# Altium schematic symbol library RDM_ALT_SCH.SchLib: 179 symbols (part 1 of 3)
Pins are listed as number, name and electrical type; pins without a type are passive.

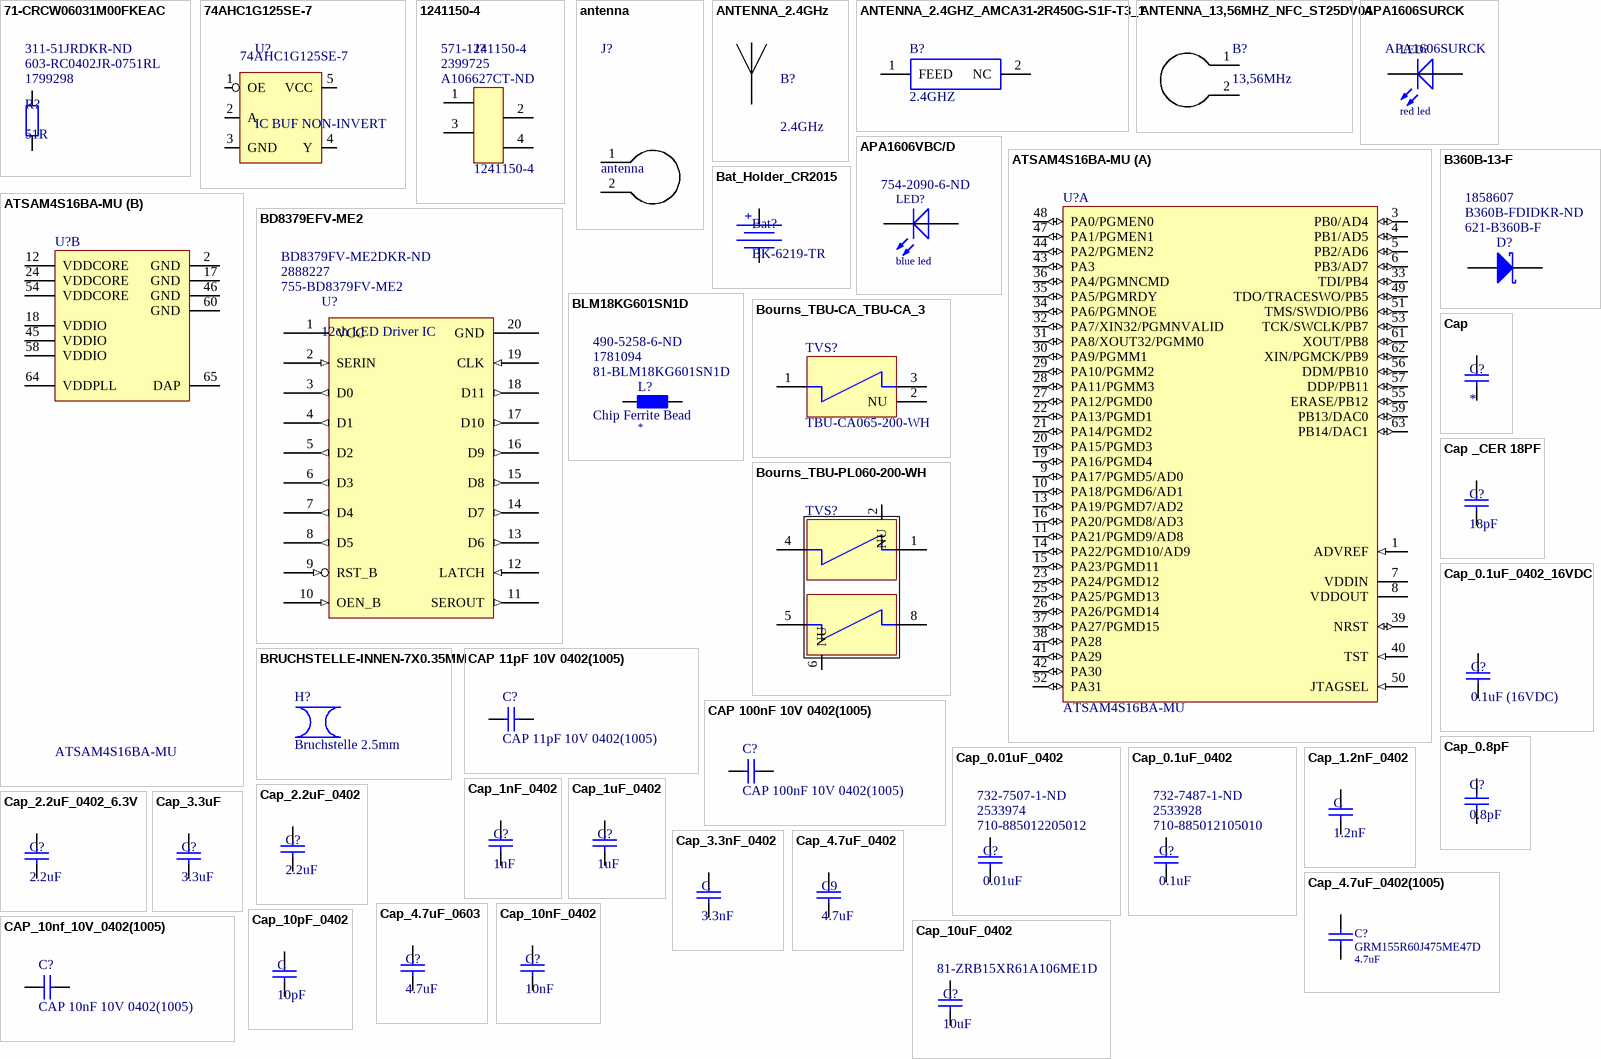
[diagram p0: symbols 71-CRCW06031M00FKEAC to Cap_10uF_0402]

## 71-CRCW06031M00FKEAC
designator R?, comment 51R  Supplier Part Number 1: 1799298  Supplier Part Number 2: 603-RC0402JR-0751RL  Supplier Part Number 3: 311-51JRDKR-ND
Resistor; Manufacturer: Yageo; Manufacturer PartNr: RC0402JR-0751RL; tolerance: 5%; power: 62.5mW; Replaceable: yes; Footprint/Package: 0402; ComponentLink1Description: mouser; ComponentLink1URL: https://www.mouser.ch/ProductDetail/Yageo/RC0402JR-0751RL?qs=sGAEpiMZZMtG0KNrPCHnjTtiZEI2zSDg2UFCMmEjZXQ%3d; Supplier 1: Farnell; Supplier 2: Mouser; Supplier 3: Digi-Key; value: 51R
footprint Resistor 0402 EIA
pins: 1, 2

## 74AHC1G125SE-7
designator U?, comment IC BUF NON-INVERT  Manufacturer PartNr: 74AHC1G125SE-7
Buffer, Non-Inverting 1 Element 1 Bit per Element 3-State Output SOT-353; Manufacturer: Diodes Incorporated; Replaceable: no; Footprint/Package: SOT353; ComponentLink1Description: mouser; ComponentLink1URL: https://www.mouser.ch/ProductDetail/Samtec/BBL-103-G-E?qs=sGAEpiMZZMs%252bGHln7q6pm5ZHNJhTjtr3eyJKd0ZImQM%3d; Supplier 2: Mouser; Supplier 1: Digi-Key; Supplier 3: Farnell; Supplier Part Number 1: SAM1104-03-ND; Supplier Part Number 2: 200-SL103G12; Supplier Part Number 3: 2019491
footprint SOT353
pins: 1 OE, 2 A, 3 GND, 4 Y, 5 VCC

## 1241150-4
designator J?  Supplier Part Number 1: A106627CT-ND  Supplier Part Number 2: 2399725  Supplier Part Number 3: 571-1241150-4  (net tie)
Headers & Wire Housings 4P SINGLE ROW; Replaceable: no; Footprint/Package: 2.54mm; Supplier 1: Digi-Key; Supplier 2: Farnell; Supplier 3: Mouser; ComponentLink1Description: mouser; ComponentLink1URL: https://www.mouser.ch/ProductDetail/TE-Connectivity-AMP/1241150-4?qs=sGAEpiMZZMvlX3nhDDO4AEpbkbpWPWuQH5SHPHaX2Mg%3d
footprint 1241150-4 (Headers & Wire Housings 4P SINGLE ROW)
pins: 1, 2, 3, 4

## antenna
designator J?  (net tie)
Replaceable: no; Footprint/Package: *
footprint antenna_1_layer (antenna 1 layer)
footprint antenna_1_layer_2_rectangles_vers1 (antenna 1 layer)
footprint antenna_1_layer_2_sprials_vers1 (antenna 1 layer)
footprint antenna_1_layer_2_sprials_vers2 (antenna 1 layer)
footprint antenna_1_layer_2_sprials_vers3 (antenna 1 layer)
footprint antenna_1_layer_2_sprials_vers4 (antenna 1 layer)
footprint antenna_1_layer_3_sprials_vers1 (antenna 1 layer)
footprint antenna_1_layer_3_sprials_vers2 (antenna 1 layer)
footprint antenna_2_layer_2_sprials_vers1 (antenna 2 layer)
footprint antenna_2_layer_2_sprials_vers2 (antenna 2 layer)
pins: 1, 2

## ANTENNA_2.4GHz
designator B?, comment 2.4GHz
2.4 GHz PCB antenna for nordic nRF52811 chip; Remark: Adopted from Nordic nRF52811 reference layout; Replaceable: no; value: PCB Antenna (2.4GHz); Manufacturer PartNr: N/A; Manufacturer_Part_Number: N/A; Supplier 1: N/A; Supplier Part Number 1: N/A; Datasheet Link: https://infocenter.nordicsemi.com/index.jsp?topic=%2Fps_nrf52811%2Fref_circuitry.html; Footprint/Package: See datasheet
footprint ANTENNA_PAD_nRF52811 (open end one wire antenna for 2.4GHz)
pins: 1

## ANTENNA_2.4GHZ_AMCA31-2R450G-S1F-T3_1
designator B?, comment 2.4GHZ
ABRACON - AMCA31-2R450G-S1F-T3 - ANTENNA, CHIP, 2.45GHZ, 50 OHM, 1206; Geometry.Height: 1.4mm; Manufacturer_Name: ABRACON; Manufacturer_Part_Number: AMCA31-2R450G-S1F-T3; RS Part Number: *; RS Price/Stock: *; Arrow Part Number: AMCA31-2R450G-S1F-T3; Arrow Price/Stock: https://www.arrow.com/en/products/amca31-2r450g-s1f-t3/abracon; Datasheet Link: http://www.abracon.com/chip-antenna/AMCA31-2R450G-S1F-T.pdf
footprint ANTC3216X140N
pins: 1 FEED, 2 NC

## ANTENNA_13,56MHZ_NFC_ST25DV04
designator B?, comment 13,56MHz
Rectangular NFC (13,56MHZ) Antenna; Replaceable: no; Remark: Adopted from Texas Instruments tidu378a.pdf  reference design.; value: NFC Antenna (13.46MHz); Footprint/Package: See datasheet; Manufacturer: N/A; Manufacturer PartNr: N/A; Supplier 1: N/A; Supplier Part Number 1: N/A; Datasheet Link: http://www.ti.com/lit/ug/tidu378a/tidu378a.pdf
footprint ANTENNA_ST25_2_LAYER_1_RECT (3,56 MHZ NFC Antenna for Nordic ST25DV04K)
pins: 1, 2

## APA1606SURCK
designator LED?, comment red led  Manufacturer PartNr: APA1606SURCK
Red 630nm LED Indication - Discrete 1.95V 2-SMD, No Lead; Manufacturer: Kingbright; Replaceable: yes; Footprint/Package: specific, see datasheet; ComponentLink1Description: mouser; ComponentLink1URL: https://www.mouser.ch/ProductDetail/Kingbright/APA1606VBC-D?qs=%2fha2pyFaduhFkLoQLKawdk3E%252bl3FgSOr3Fif4NOc1lJmKkWDM5WlaQ%3d%3d; Supplier 1: Digi-Key; Supplier Part Number 1: 754-2090-6-ND
footprint Kingbright_SMD_2_RWH
footprint Kingbright_SMD_2_RWH_NETSCALE72_SENSORBAR (Kingbright_SMD_2_RWH)
pins: 1 K, 2 A

## APA1606VBC/D
designator LED?, comment blue led  Supplier Part Number 1: 754-2090-6-ND
blue, 1.6 x 0.6 mm Right Angle SMD Chip LED Lamp; Manufacturer: Kingbright; Manufacturer PartNr: APA1606VBC/D; Replaceable: yes; Footprint/Package: specific, see datasheet; ComponentLink1Description: mouser; ComponentLink1URL: https://www.mouser.ch/ProductDetail/Kingbright/APA1606VBC-D?qs=%2fha2pyFaduhFkLoQLKawdk3E%252bl3FgSOr3Fif4NOc1lJmKkWDM5WlaQ%3d%3d; Supplier 1: Digi-Key
footprint Kingbright_SMD_2_RWH
pins: 1 K, 2 A

## ATSAM4S16BA-MU
designator U?
AT91 ARM Cortex-M4 32-bit Microcontroller, 1MB Flash, 128KB SRAM, USB, 79 User I/Os, 64-Pin QFN, Industrial Grade (-40°C to 105°C), Pb-Free; Manufacturer: Atmel; Replaceable: no; DatasheetVersion: revA, Oct-2011; PackageVersion: revJ, Jul-2007; PackageReference: 64PS; PackageDescription: 64-Pin Quad Flat No-Lead (QFN) Sawn, 9 x 9 x 1.0 mm Body, 0.5 mm Pitch, Exposed Pad; Code_JEDEC: MO-220VMMD-3; ComponentLink1Description: Manufacturer URL; ComponentLink1URL: http://www.atmel.com/; ComponentLink2Description: SAM4S Series Datasheet; ComponentLink2URL: http://www.atmel.com/dyn/resources/prod_documents/11100.pdf; ComponentLink3Description: SAM4S Series Summary; ComponentLink3URL: http://www.atmel.com/dyn/resources/prod_documents/11100S.pdf; Manufacturer PartNr: ATSAM4S16BA-MU; Footprint/Package: QFN, 64-Leads, Body 9x9mm, Pitch 0.5mm, Thermal Pad 7.5x7.5mm, IPC Medium Density
footprint 64PS_N
part A pins: 1 ADVREF (in), 3 PB0/AD4 (io), 4 PB1/AD5 (io), 5 PB2/AD6 (io), 6 PB3/AD7 (io), 7 VDDIN (power), 8 VDDOUT (power), 9 PA17/PGMD5/AD0 (io), 10 PA18/PGMD6/AD1 (io), 11 PA21/PGMD9/AD8 (io), 13 PA19/PGMD7/AD2 (io), 14 PA22/PGMD10/AD9 (io), 15 PA23/PGMD11 (io), 16 PA20/PGMD8/AD3 (io), 19 PA16/PGMD4 (io), 20 PA15/PGMD3 (io), 21 PA14/PGMD2 (io), 22 PA13/PGMD1 (io), 23 PA24/PGMD12 (io), 25 PA25/PGMD13 (io), 26 PA26/PGMD14 (io), 27 PA12/PGMD0 (io), 28 PA11/PGMM3 (io), 29 PA10/PGMM2 (io), 30 PA9/PGMM1 (io), 31 PA8/XOUT32/PGMM0 (io), 32 PA7/XIN32/PGMNVALID (io), 33 TDI/PB4 (io), 34 PA6/PGMNOE (io), 35 PA5/PGMRDY (io), 36 PA4/PGMNCMD (io), 37 PA27/PGMD15 (io), 38 PA28 (io), 39 NRST (io), 40 TST (in), 41 PA29 (io), 42 PA30 (io), 43 PA3 (io), 44 PA2/PGMEN2 (io), 47 PA1/PGMEN1 (io), 48 PA0/PGMEN0 (io), 49 TDO/TRACESWO/PB5 (io), 50 JTAGSEL (in), 51 TMS/SWDIO/PB6 (io), 52 PA31 (io), 53 TCK/SWCLK/PB7 (io), 55 ERASE/PB12 (io), 56 DDM/PB10 (io), 57 DDP/PB11 (io), 59 PB13/DAC0 (io), 61 XOUT/PB8 (io), 62 XIN/PGMCK/PB9 (io), 63 PB14/DAC1 (io)
part B pins: 2 GND (power), 12 VDDCORE (power), 17 GND (power), 18 VDDIO (power), 24 VDDCORE (power), 45 VDDIO (power), 46 GND (power), 54 VDDCORE (power), 58 VDDIO (power), 60 GND (power), 64 VDDPLL (power), 65 DAP (power)

## B360B-13-F
designator D?, comment Supplier Part Number 1: 621-B360B-F  Supplier Part Number 2: B360B-FDIDKR-ND  Supplier Part Number 3: 1858607  (hidden comment: Schottky Diode)
B360B-13-F Schottky Diode; Manufacturer: Diodes Incorporated; Replaceable: no; ComponentLink1Description: mouser; ComponentLink1URL: https://www.mouser.ch/ProductDetail/Diodes-Incorporated/B360B-13-F?qs=sGAEpiMZZMtQ8nqTKtFS%2fP8bhA82jfmw8ipi2fZa5J8%3d; Manufacturer PartNr: B360B-13-F; Footprint/Package: SMB; Supplier 1: Mouser; Supplier 2: Digi-Key; Supplier 3: Farnell
footprint SMB (DO-214-AA/SMB; 2 C-Bend Leads; Body 5.3 x 3.6 mm, inc. leads (LxW))
simulation model SKYDIODE (Diode)
signal-integrity model D Schottky
footprint Bourns_SMB (DO-214AA)_2_R
pins: 1 K, 2 A

## Bat_Holder_CR2015
designator Bat?, comment BK-6219-TR
Battery retainer coin 20mm SMD (CR2025); Manufacturer: MPD (Memory Protection Devices); Replaceable: no; value: Bat retainer; ComponentLink1Description: digykey; ComponentLink1URL: https://www.digikey.ch/product-detail/de/mpd-memory-protection-devices/BK-6219-TR/BK-6219-TR-ND/8119239; Footprint/Package: See datasheet; Manufacturer PartNr: BK-6219-TR; Supplier 1: Digi-Key; Supplier Part Number 1: BK-6219-TR-ND; Datasheet Link: http://www.memoryprotectiondevices.com/datasheets/BK-6219-TR-datasheet.pdf
footprint BAT_HOLDER_CR2025 (BATTERY RETAINER COIN 20MM SMD)
pins: 1, 2
text: +

## BD8379EFV-ME2
designator U?, comment 12ch LED Driver IC  Supplier Part Number 1: 755-BD8379FV-ME2  Supplier Part Number 2: 2888227  Supplier Part Number 3: BD8379FV-ME2DKR-ND
LED Lighting Drivers 12ch LED Drvr IC 3-5.5V; HTSSOP-B20; Manufacturer: ROHM Semiconductor; Manufacturer PartNr: BD8379FV-ME2; Replaceable: no; ComponentLink1Description: mouser; ComponentLink1URL: https://www.mouser.ch/ProductDetail/ROHM-Semiconductor/BD8379FV-ME2?qs=sGAEpiMZZMsE420DPIasPr3Oyx8hJUvEOZy8Z%252b2LZIkkhTSvSLIdLA%3d%3d; Footprint/Package: SSOP-B-20; Supplier 1: Mouser; Supplier 2: Farnell; Supplier 3: Digi-Key
footprint BD8379EFV-ME2_HTSSOP-B20 (TSOP, 20-Leads, Body 6.40x4.40mm, Pitch 0.65mm, IPC Medium Density)
pins: 1 VCC (power), 2 SERIN (in), 3 D0 (out), 4 D1 (out), 5 D2 (out), 6 D3 (out), 7 D4 (out), 8 D5 (out), 9 RST_B (in), 10 OEN_B (in), 11 SEROUT (out), 12 LATCH (in), 13 D6 (out), 14 D7 (out), 15 D8 (out), 16 D9 (out), 17 D10 (out), 18 D11 (out), 19 CLK (in), 20 GND

## BLM18KG601SN1D
designator L?, comment Chip Ferrite Bead  Supplier Part Number 1: 81-BLM18KG601SN1D  Supplier Part Number 2: 1781094  Supplier Part Number 3: 490-5258-6-ND
Ferrite Beads 0603 600ohms 1.3A; Manufacturer: Murata; Manufacturer PartNr: BLM18KG601SN1D; Replaceable: yes; ComponentLink1Description: mouser; ComponentLink1URL: https://www.mouser.ch/ProductDetail/Murata-Electronics/BLM18KG601SN1D?qs=%2fha2pyFaduhwu%252bl5Ut0DBIM3rNQdoNKes5nZMQcK7rTjh9KyVuGbqA%3d%3d; Footprint/Package: 0603; Supplier 1: Mouser; Supplier 2: Farnell; Supplier 3: Digi-Key; Value: *
footprint Resistor 0603 EIA
pins: 1, 2

## Bourns_TBU-CA_TBU-CA_3
designator TVS?, comment TBU-CA065-200-WH
TBU-CA Series - TBU® High-Speed Protectors; Manufacturer: Bourns; Manufacturer PartNr: TBU-CA065-200-WH; ShortDescription: TBU-CA065-200-WH
footprint Bourns_TBU-CA_3_R
pins: 1, 2 NU, 3

## Bourns_TBU-PL060-200-WH
designator TVS?, comment TBU-CA065-200-WH  (value not drawn)
TBU-PL Series dual 50 ohm Surge Suppressors, bi-directional; Manufacturer: Bourns; Manufacturer PartNr: TBU-PL060-200-WH; Replaceable: no; value: TBU-PL060-200-WH; Supplier 1: Mouser; Footprint/Package: DFN; Supplier Part Number 1: 652-TBU-PL060-200-WH
footprint Bourns_TBU_PL060_WH (TBU-PL060-200-WH)
pins: 1, 2 NU, 4, 5, 6 NU, 8

## BRUCHSTELLE-INNEN-7X0.35MM
designator H?, comment Bruchstelle 2.5mm
Bruchstelle 3mm; Manufacturer: NK; Manufacturer PartNr: Bruchstelle 3mm; ShortDescription: Bruchstelle 3mm
footprint Bruchstelle_7X0.5MM

## Cap
designator C?
Multilayer Ceramic Capacitors MLCC; value: *; tolerance: *; voltage: *; Replaceable: *; Dielectric Grade: *; Manufacturer: *; Manufacturer PartNr: *; Footprint/Package: *
footprint Ceramic Capacitor 1210 EIA
footprint Ceramic Capacitor 1206 EIA
footprint Ceramic Capacitor 0805 EIA
footprint Ceramic Capacitor 0603 EIA
footprint Ceramic Capacitor 0402 EIA
pins: 1, 2

## CAP 11pF 10V 0402(1005)
designator C?
CAP 11pF 10V ±0.25pF 0402 (1005 Metric) Thickness 0.6mm SMD; Case-EIA: 0402; Case-Metric: 1005; Tolerance: Â±0.25pF; Value: 11pF; Max Thickness: 0.6 mm; Rated Voltage: 10 V; Technology: SMT
footprint CAPC0402(1005)60_M (Chip Capacitor, Body 1.0x0.5mm, Height 0.6mm, IPC Low Density)
footprint CAPC0402(1005)60_N (Chip Capacitor, Body 1.0x0.5mm, Height 0.6mm, IPC Medium Density)
footprint CAPC0402(1005)60_L (Chip Capacitor, Body 1.0x0.5mm, Height 0.6mm, IPC High Density)
pins: 1, 2
1 alternate drawing of the same symbol

## CAP 100nF 10V 0402(1005)
designator C?
CAP 100nF 10V ±10% 0402 (1005 Metric) Thickness 0.6mm SMD; Case-EIA: 0402; Case-Metric: 1005; Tolerance: Â±10%; Max Thickness: 0.6 mm; Value: 100nF; Rated Voltage: 10 V; Technology: SMT
footprint CAPC0402(1005)60_M (Chip Capacitor, Body 1.0x0.5mm, Height 0.6mm, IPC Low Density)
footprint CAPC0402(1005)60_N (Chip Capacitor, Body 1.0x0.5mm, Height 0.6mm, IPC Medium Density)
footprint CAPC0402(1005)60_L (Chip Capacitor, Body 1.0x0.5mm, Height 0.6mm, IPC High Density)
pins: 1, 2
1 alternate drawing of the same symbol

## Cap _CER 18PF
designator C?, comment 18pF
CAP CER 18PF 50V NP0 0402; Manufacturer: Murata; Manufacturer Part Number: GJM1555C1H180JB01D; Tolerance: 5%; Dielectric: C0G; Supplier 1: Digi-Key; Supplier Part Number 1: 490-3119-2-ND; Stock 1: 340000; Pricing 1: 10000=0.0349, 20000=0.03307, 30000=0.03123 (USD); Mount: Surface Mount; Case/Package: 0402; Case Code (Imperial): 0402; Case Code (Metric): 1005; Min Operating Temperature: -55°C; Max Operating Temperature: 125°C; Capacitance: 18pF; Packaging: Tape and Reel; Voltage Rating: 50V; Package Quantity: 1; Termination: SMD/SMT; Voltage: 50V; Voltage Rating (DC): 50V; Length: 1mm; Height: 0.5mm; Width: 0.02inch; Thickness: 0.022inch; Depth: 0.5mm; Radiation Hardening: No; Lead Free: Lead Free; ComponentLink1URL: http://search.murata.co.jp/Ceramy/image/img/A01X/G101/ENG/GJM1555C1H180JB01-01.pdf; ComponentLink1Description: http://search.murata.co.jp/Ceramy/image/img/A01X/G101/ENG/GJM1555C1H180JB01-01.pdf
pins: 1, 2

## Cap_0.01uF_0402
designator C?, comment 0.01uF  Supplier Part Number 1: 710-885012205012  Supplier Part Number 2: 2533974  Supplier Part Number 3: 732-7507-1-ND
SMD/SMT WCAP-CSGP 0.01uF 0402 10% 10V MLCC; Manufacturer: Wurth Electronics; Manufacturer PartNr: 885012205012; voltage: 10VDC; Replaceable: yes; Dielectric Grade: X7R; value: 0.01uF; tolerance: 10%; ComponentLink1Description: mouser; ComponentLink1URL: https://www.mouser.ch/ProductDetail/Wurth-Electronics/885012205012?qs=%2fha2pyFadugw7Bx5e6Fm8E9Tl5BwARhs%2fZgZBwU9Lt9i4SI58FWkO%2fGWTrc%2fVjVaOTikVrFA6u%2fDYyVQwAJERsgVVqUKkSXa; Footprint/Package: 0402; Supplier 1: Mouser; Supplier 2: Farnell; Supplier 3: Digi-Key
footprint Ceramic Capacitor 0402 EIA
pins: 1, 2

## Cap_0.1uF_0402
designator C?, comment 0.1uF  Supplier Part Number 1: 710-885012105010  Supplier Part Number 2: 2533928  Supplier Part Number 3: 732-7487-1-ND
SMD/SMT WCAP-CSGP 0.1uF 0402 20% 10V MLCC; Manufacturer: Wurth Electronics; Manufacturer PartNr: 885012105010; voltage: 10VDC; Replaceable: yes; Dielectric Grade: X5R; value: 0.1uF; tolerance: 20%; Footprint/Package: 0402; ComponentLink1Description: mouser; ComponentLink1URL: https://www.mouser.ch/ProductDetail/Wurth-Electronics/885012105010?qs=sGAEpiMZZMs0AnBnWHyRQEGbLOF2VP1ihL84oCjXnlO407YOHi%2fQbw%3d%3d; Supplier 1: Mouser; Supplier 2: Farnell; Supplier 3: Digi-Key
footprint Ceramic Capacitor 0402 EIA
pins: 1, 2

## Cap_0.1uF_0402_16VDC
designator C?, comment 0.1uF (16VDC)
SMD/SMT 16volts .1uF 20% X7R; Manufacturer: KEMET; Manufacturer PartNr: C0402C104M4RACAUTO; Replaceable: yes; value: 0.1uF (16VDC); tolerance: 20%; voltage: 16VDC; Footprint/Package: 0402; Dielectric Grade: X7R; ComponentLink1Description: mouser; ComponentLink1URL: https://www.mouser.ch/ProductDetail/KEMET/C0402C104M4RACAUTO?qs=sGAEpiMZZMs0AnBnWHyRQB295tntAovf0Dzw3tVX6zRfKTwHFThmZw%3d%3d
footprint Ceramic Capacitor 0402 EIA
pins: 1, 2

## Cap_0.8pF
designator C?, comment 0.8pF
Cap Ceramic 0.8pF 50V C0G 0.1pF SMD 0402 125C Paper T/R; Manufacturer: Murata; Manufacturer PartNr: GJM1555C1HR80BB01D; Dielectric Grade: NP0/C0G; Replaceable: yes; Supplier 1: Digi-Key; Supplier Part Number 1: GJM1555C1HR80BB01D-ND; Footprint/Package: 0402 (1005 metric); value: 0.8pF; Voltage: 50V; ComponentLink1URL: http://search.murata.co.jp/Ceramy/image/img/A01X/G101/ENG/GJM1555C1HR80BB01-01.pdf; ComponentLink1Description: http://search.murata.co.jp/Ceramy/image/img/A01X/G101/ENG/GJM1555C1HR80BB01-01.pdf; ComponentLink2URL: http://search.murata.co.jp/Ceramy/image/img/w_hinm/L0005E.pdf; ComponentLink2Description: http://search.murata.co.jp/Ceramy/image/img/w_hinm/L0005E.pdf; ComponentLink3URL: http://psearch.murata.com/capacitor/product/GJM1555C1HR80BB01%23.pdf; ComponentLink3Description: http://psearch.murata.com/capacitor/product/GJM1555C1HR80BB01%23.pdf; ComponentLink4URL: https://www.verical.com/server-webapp/html/getDatasheet?partID=75095; ComponentLink4Description: https://www.verical.com/server-webapp/html/getDatasheet?partID=75095
footprint Ceramic Capacitor 0402 EIA
pins: 1, 2

## Cap_1.2nF_0402
designator C, comment 1.2nF
Multilayer Ceramic Capacitors MLCC - SMD/SMT 50V 1200pF C0G 0402 5%; Manufracturer: Kemet; Manufacturer PartNr: C0402C122J5GACTU; voltage: 50VDC; Replaceable: yes; tolerance: 5%; ComponentLink1Description: mouser; ComponentLink1URL: https://www.mouser.ch/ProductDetail/Murata-Electronics/GRM155R60J475ME47D?qs=sGAEpiMZZMs0AnBnWHyRQIE6q%2f4qwWvwbJmEUwav8%2f4%3d; Dielectric Grade: C0G; Footprint/Package: 0402 (1005 metric); Supplier 1: Mouser; Supplier Part Number 1: 80-C0402C122J5G; value: 1.2nF
footprint Ceramic Capacitor 0402 EIA
pins: 1, 2

## Cap_1nF_0402
designator C?, comment 1nF
1000pF ±20% 50V Ceramic Capacitor X5R 0402 (1005 Metric); Manufacturer: TDK Corporation; Manufacturer PartNr: C1005X5R1H102M050BA; Replaceable: yes; value: 1nF; tolerance: ±20%; voltage: 50V; Dielectric Grade: X5R; Footprint/Package: 0402; ComponentLink1Description: digikey; ComponentLink1URL: https://www.digikey.com/product-detail/en/tdk-corporation/C1005X5R1H102M050BA/445-13843-6-ND/3959939
footprint Ceramic Capacitor 0402 EIA
pins: 1, 2

## Cap_1uF_0402
designator C?, comment 1uF
SMD/SMT 0402 1uF 10volts X7S 10%; Manufacturer: Murata; Manufacturer PartNr: GCM155C71A105KE38D; voltage: 10VDC; Replaceable: yes; value: 1uF; tolerance: 10%; Footprint/Package: 0402 (1005 metric); Dielectric Grade: X7S; ComponentLink1Description: mouser; ComponentLink1URL: https://www.mouser.ch/ProductDetail/Murata-Electronics/GCM155C71A105KE38D?qs=sGAEpiMZZMsh%252b1woXyUXj0FEAttKcN54ouz5zO04smg%3d; Supplier Part Number 1: 490-13409-1-ND; Supplier 1: Digi-Key
footprint Ceramic Capacitor 0402 EIA
pins: 1, 2

## Cap_2.2uF_0402
designator C?, comment 2.2uF
2.2µF ±20% 25V Ceramic Capacitor X5R 0402 (1005 Metric); Manufacturer: Murata; Manufacturer PartNr: GRM155R61E225ME15D; Replaceable: yes; value: 2.2uF; tolerance: ±20%; voltage: 25V; Dielectric Grade: X5R; Footprint/Package: 0402; ComponentLink1Description: digikey; ComponentLink1URL: https://www.digikey.com/product-detail/en/murata-electronics-north-america/GRM155R61E225ME15D/490-10457-2-ND/5027542
footprint Ceramic Capacitor 0402 EIA
pins: 1, 2

## Cap_2.2uF_0402_6.3V
designator C?, comment 2.2uF
Multilayer Ceramic Capacitors MLCC - SMD/SMT 0402 2.2uF 6.3volts *Derate Voltage/Temp; Manufacturer: Murata; Manufacturer PartNr: GRM155R60J225ME15D; tolerance: ±20%; voltage: 6.3V; Replaceable: yes; Dielectric Grade: X5R; value: 2.2uF; Footprint/Package: 0402; ComponentLink1Description: digikey; ComponentLink1URL: https://www.digikey.com/product-detail/en/murata-electronics-north-america/GRM155R61E225ME15D/490-10457-2-ND/5027542; Supplier 1: Mouser; Supplier Part Number 1: 81-GRM155R60J225ME5D
footprint Ceramic Capacitor 0402 EIA
pins: 1, 2

## Cap_3.3nF_0402
designator C, comment 3.3nF
Multilayer Ceramic Capacitors MLCC - SMD/SMT 0402 3300pF 50volts X7R 5%; Manufracturer: Murata Electronics; Manufacturer PartNr: GCM155R71H332JA37D; voltage: 50VDC; Replaceable: yes; tolerance: 5%; ComponentLink1Description: mouser; ComponentLink1URL: https://www.mouser.ch/ProductDetail/Murata-Electronics/GRM155R60J475ME47D?qs=sGAEpiMZZMs0AnBnWHyRQIE6q%2f4qwWvwbJmEUwav8%2f4%3d; Dielectric Grade: X7R; Footprint/Package: 0402 (1005 metric); Supplier 1: Mouser; Supplier Part Number 1: 81-GCM155R71H332JA7D; value: 3.3nF
footprint Ceramic Capacitor 0402 EIA
pins: 1, 2

## Cap_3.3uF
designator C?, comment 3.3uF
KEMET 3.3F Multilayer Ceramic Capacitor (MLCC) 6.3 V dc 20% X5R dielectric C SMD max op. temp. +85C; Manufacturer Part Number: C0603C335M9PAC7867; Voltage: 6.3V; Supplier 1: Digi-Key; Supplier Part Number 1: 399-5502-6-ND; Manufacturer: KEMET; Stock 1: 40000; Pricing 1: 1=0.28, 10=0.194, 100=0.11, 500=0.07764, 1000=0.06794 (USD); Mount: Surface Mount; Case/Package: 0603; Number of Pins: 2; Dielectric Material: Ceramic; Min Operating Temperature: -55°C; Max Operating Temperature: 85°C; Capacitance: 3.3uF; Tolerance: 20%; Packaging: Tape and Reel; Dielectric: X5R; Termination: SMD/SMT; Voltage Rating (DC): 6.3V; Length: 1.6mm; Height: 0.8mm; Depth: 0.8mm; Radiation Hardening: No; Lead Free: Lead Free; ComponentLink1URL: http://uk.rs-online.com/webdocs/1528/0900766b81528d26.pdf; ComponentLink1Description: http://uk.rs-online.com/webdocs/1528/0900766b81528d26.pdf
pins: 1, 2

## Cap_4.7uF_0402
designator C9, comment 4.7uF
SMD/SMT 0402 4.7uF 6.3volts *Derate Voltage/Temp; Manufracturer: Samsung Electro-Mechanics; Manufacturer PartNr: CL05A475KP5NRNC; tolerance: 10%; voltage: 10VDC; Replaceable: yes; Dielectric Grade: X5R; ComponentLink1Description: mouser; ComponentLink1URL: https://www.mouser.ch/ProductDetail/Murata-Electronics/GRM155R60J475ME47D?qs=sGAEpiMZZMs0AnBnWHyRQIE6q%2f4qwWvwbJmEUwav8%2f4%3d; Footprint/Package: 0402 (1005 metric); Supplier 1: Digi-Key; Supplier Part Number 1: 1276-1480-1-ND; value: 4.7uF
footprint Ceramic Capacitor 0402 EIA
pins: 1, 2

## Cap_4.7uF_0402(1005)
designator C?, comment GRM155R60J475ME47D  value 4.7uF
4.7uF, Chip Monolithic Ceramic Condensators; Manufacturer: Murata; Manufacturer PartNr: GRM155R60J475ME47D
footprint CAP-0402[1005] - RFL (SMD Chip 0402 - CAP - RFL)
pins: 1 Pos, 2 Neg

## Cap_4.7uF_0603
designator C?, comment 4.7uF
SMD/SMT 0603 4.7uF 10volts; Manufracturer: Murata; Manufacturer PartNr: GRM188R61A475KE15D; tolerance: 20%; voltage: 10VDC; Replaceable: yes; Dielectric Grade: X5R; value: 4.7uF; Footprint/Package: 0603
footprint Ceramic Capacitor 0603 EIA
pins: 1, 2

## CAP_10nf_10V_0402(1005)
designator C?, comment CAP 10nF 10V 0402(1005)
CAP 10nF 10V ±10% 0402 (1005 Metric) Thickness 0.6mm SMD; Case-Metric: 1005; Case-EIA: 0402; Tolerance: Â±10%; Rated Voltage: 10 V; Technology: SMT; Max Thickness: 0.6 mm; Value: 10nF
footprint CAPC0402(1005)60_M (Chip Capacitor, Body 1.0x0.5mm, Height 0.6mm, IPC Low Density)
footprint CAPC0402(1005)60_L (Chip Capacitor, Body 1.0x0.5mm, Height 0.6mm, IPC High Density)
footprint CAPC0402(1005)60_N (Chip Capacitor, Body 1.0x0.5mm, Height 0.6mm, IPC Medium Density)
pins: 1, 2
1 alternate drawing of the same symbol

## Cap_10nF_0402
designator C?, comment 10nF
10000pF ±10% 50V Keramikkondensatoren X7R 0402 (1005 metrisch) CL05B103KB5NNNC; Manufacturer: Samsung Electro-Mechanics; Replaceable: yes; tolerance: ±10%; voltage: 50V; Dielectric Grade: X7R; Footprint/Package: 0402; Supplier Part Number 1: 1276-1028-2-ND; Supplier 1: Digi-Key; Manufacturer PartNr: CL05B103KB5NNNC; value: 10nF
footprint Ceramic Capacitor 0402 EIA
pins: 1, 2

## Cap_10pF_0402
designator C, comment 10pF
Multilayer Ceramic Capacitors MLCC - SMD/SMT 0402 10pF 50Volts C0G 1%; Manufracturer: Murata Electronics; Manufacturer PartNr: GJM1555C1H100FB01D; voltage: 50VDC; Replaceable: yes; Dielectric Grade: C0G (NP0); tolerance: 1%; ComponentLink1Description: mouser; ComponentLink1URL: https://www.mouser.ch/ProductDetail/Murata-Electronics/GRM155R60J475ME47D?qs=sGAEpiMZZMs0AnBnWHyRQIE6q%2f4qwWvwbJmEUwav8%2f4%3d; Footprint/Package: 0402 (1005 metric); Supplier 1: Mouser; Supplier Part Number 1: 81-GJM1555C1H100FB01; value: 10pF
footprint Ceramic Capacitor 0402 EIA
pins: 1, 2

## Cap_10uF_0402
designator C?, comment 10uF  Supplier Part Number 1: 81-ZRB15XR61A106ME1D
Multilayer Ceramic Capacitors MLCC - SMD/SMT; Manufacturer: Murata; Manufacturer PartNr: ZRB15XR61A106ME01D; tolerance: 20%; voltage: 10VDC; Replaceable: yes; Dielectric Grade: X5R; value: 10uF; ComponentLink1Description: mouser; ComponentLink1URL: https://www.mouser.ch/ProductDetail/Murata-Electronics/ZRB15XR61A106ME01D?qs=sGAEpiMZZMs0AnBnWHyRQN7%2fAA2D2lPPC0%2fdyv23S%2fU%252bBeuYI5b1UA%3d%3d; Footprint/Package: 0402; Supplier 1: Mouser
footprint Ceramic Capacitor 0402 EIA
pins: 1, 2

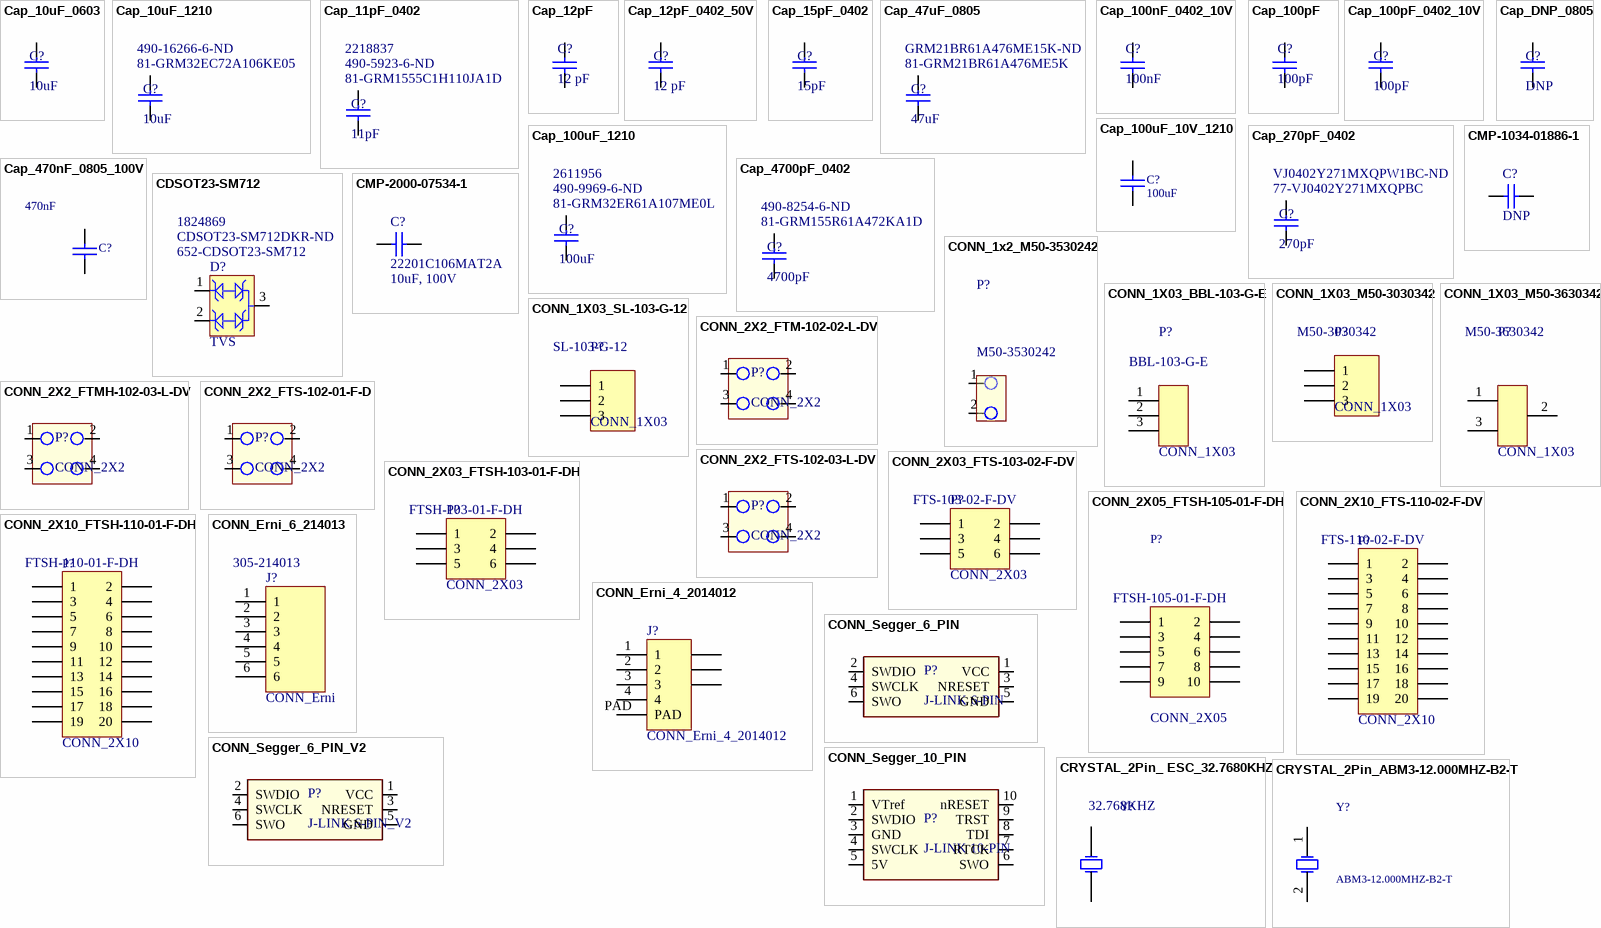
[diagram p1: symbols Cap_10uF_0603 to CRYSTAL_2Pin_ABM3-12.000MHZ-B2-T]

## Cap_10uF_0603
designator C?, comment 10uF
SMD/SMT 0603 10uF 10volts; Manufacturer: Murata; Manufacturer PartNr: GRM188D71A106MA73D; tolerance: 20%; voltage: 10VDC; Replaceable: yes; Dielectric Grade: X5R; value: 10uF; Footprint/Package: 0603
footprint Ceramic Capacitor 0603 EIA
pins: 1, 2

## Cap_10uF_1210
designator C?, comment 10uF  Supplier Part Number 1: 81-GRM32EC72A106KE05  Supplier Part Number 2: 490-16266-6-ND
SMD/SMT 100Vdc 10uF 10% 1210/2502; Manufacturer: Murata; Manufacturer PartNr: GRM32EC72A106KE05L; Replaceable: yes; Dielectric Grade: X7S; value: 10uF; tolerance: 10%; voltage: 100VDC; ComponentLink1Description: mouser; ComponentLink1URL: https://www.mouser.ch/ProductDetail/Murata-Electronics/GRM32EC72A106KE05L?qs=sGAEpiMZZMs0AnBnWHyRQN7%2fAA2D2lPPRgsNRWcxCxSMn45aJ02Wig%3d%3d; Footprint/Package: 1210; Supplier 1: Mouser; Supplier 2: Digi-Key
footprint Ceramic Capacitor 1210 EIA
pins: 1, 2

## Cap_11pF_0402
designator C?, comment 11pF  Supplier Part Number 1: 81-GRM1555C1H110JA1D  Supplier Part Number 2: 490-5923-6-ND  Supplier Part Number 3: 2218837
SMD/SMT 0402 11pF 50volts C0G 5%; Manufacturer: Murata; Manufacturer PartNr: GRM1555C1H110JA01D; voltage: 50VDC; Replaceable: yes; Dielectric Grade: C0G (NP0); value: 11pF; tolerance: 5%; Footprint/Package: 0402; ComponentLink1Description: mouser; ComponentLink1URL: https://www.mouser.ch/ProductDetail/Murata-Electronics/GRM1555C1H110JA01D?qs=%2fha2pyFadug34NHqLs7eMMmZ4IY%2fB%2fBwtGmZmE%252bqlNJIuNiWKDU4cio3ILTIjZ7Z; Supplier 1: Mouser; Supplier 2: Digi-Key; Supplier 3: Farnell
footprint Ceramic Capacitor 0402 EIA
pins: 1, 2

## Cap_12pF
designator C?, comment 12 pF
AVX   04025A120JAT2A   Multilayer Ceramic Capacitor, 12 pF,  5%, C0G / NP0, 50 V, 0402 [1005 Metric]; Manufacturer: Kyocera AVX; Capacitance: 12pF; Voltage Rating: 50V; Temperature Coefficient: 30ppm/°C; Insulation Resistance: 100GR; Supplier 1: Mouser; Supplier Part Number 1: 581-04025A120J; Manufacturer Part Number: 04025A120JAT2A; Stock 1: 143; Pricing 1: 1=0.16, 10=0.117, 50=0.117, 100=0.055, 1000=0.032, 10000=0.021 (USD); Mount: PCB,Surface Mount; Case/Package: 0402; Number of Pins: 2; Case Code (Metric): 1005; Case Code (Imperial): 0402; Min Operating Temperature: -55°C; Max Operating Temperature: 125°C; Packaging: Tape and Reel; Tolerance: 5%; Voltage Rating (DC): 50V; Package Quantity: 1; Dielectric: C0G; Termination: SMD/SMT; Voltage: 50V; Length: 1mm; Height: 0.5mm; Width: 0.02inch; Thickness: 0.022inch; Depth: 0.5mm; Radiation Hardening: No; REACH SVHC: No SVHC; Lead Free: Lead Free; ComponentLink1URL: http://www.farnell.com/datasheets/84496.pdf; ComponentLink1Description: http://www.farnell.com/datasheets/84496.pdf; ComponentLink2URL: http://datasheets.avx.com/C0GNP0-Dielectric.pdf; ComponentLink2Description: http://datasheets.avx.com/C0GNP0-Dielectric.pdf; ComponentLink3URL: http://catalogs.avx.com/SurfaceMount.pdf; ComponentLink3Description: http://catalogs.avx.com/SurfaceMount.pdf; ComponentLink4URL: http://www.avxcorp.com/docs/Catalogs/ccog.pdf; ComponentLink4Description: http://www.avxcorp.com/docs/Catalogs/ccog.pdf; ComponentLink5URL: http://www.farnell.com/datasheets/759117.pdf; ComponentLink5Description: http://www.farnell.com/datasheets/759117.pdf
pins: 1, 2

## Cap_12pF_0402_50V
designator C?, comment 12 pF
12pF ±5% 50V Keramikkondensatoren C0G, NP0 0402 (1005 metrisch); Manufacturer: Murata; Manufacturer PartNr: GRM1555C1H120GA01D; voltage: 50; Replaceable: yes; Dielectric Grade: C0G/NP0; value: 12 pF; tolerance: ±5%; Footprint/Package: 0402 (1005 metric); Supplier 1: Digi-Key; Supplier Part Number 1: 490-6197-2-ND
footprint Ceramic Capacitor 0402 EIA
pins: 1, 2

## Cap_15pF_0402
designator C?, comment 15pF
Multilayer Ceramic Capacitors MLCC - SMD/SMT 0402 15pF 50Volts C0G 5%; Manufacturer: Muarata; Manufacturer PartNr: GJM1555C1H150FB01D; voltage: 50V; Replaceable: no; Dielectric Grade: C0G (NP0); value: 15pF; tolerance: ±5%; Footprint/Package: 0402; ComponentLink1Description: digikey; ComponentLink1URL: https://www.digikey.com/product-detail/en/murata-electronics-north-america/GJM1555C1H150FB01D/490-11191-6-ND/5333833
footprint Ceramic Capacitor 0402 EIA
pins: 1, 2

## Cap_47uF_0805
designator C?, comment 47uF  Supplier Part Number 1: 81-GRM21BR61A476ME5K  Supplier Part Number 2: GRM21BR61A476ME15K-ND
SMD/SMT 0805 47uF 10volts; Manufacturer: Murata; Manufacturer PartNr: GRM21BR61A476ME15K; tolerance: 20%; voltage: 10VDC; Replaceable: yes; Dielectric Grade: X5R; value: 47uF; ComponentLink1Description: mouser; ComponentLink1URL: https://www.mouser.ch/ProductDetail/Murata-Electronics/GRM21BR61A476ME15K?qs=sGAEpiMZZMs0AnBnWHyRQFv7x1xn%252bYFd%2fKEbtsqpw9LjjzI%2fE2JjPg%3d%3d; Footprint/Package: 0805; Supplier 1: Mouser; Supplier 2: Digi-Key
footprint Ceramic Capacitor 0805 EIA
pins: 1, 2

## Cap_100nF_0402_10V
designator C?, comment 100nF
0,1µF ±10% 10V Keramikkondensatoren X7R 0402 (1005 metrisch); Manufacturer: Samsung Electro-Mechanics; Manufacturer PartNr: CL05B104KP5NNNC; Replaceable: yes; volatage: 10; Dielectric Grade: X7R; Footprint/Package: 0402 (1005 metric); Supplier 1: Digi-Key; Supplier Part Number 1: 1276-1002-1-ND; value: 100nF
footprint Ceramic Capacitor 0402 EIA
pins: 1, 2

## Cap_100pF
designator C?, comment 100pF
SMD/SMT 0201 100pF 50volts C0G +/-5%; Manufacturer: Murata; Manufacturer Part Number: GRM0335C1H101JA01D; Voltage Rating: 50V; Tolerance: 5%; Supplier 1: Digi-Key; Supplier Part Number 1: 490-6113-2-ND; Stock 1: 150000; Pricing 1: 15000=0.00225 (USD); Mount: Surface Mount; Case/Package: 0201; Case Code (Metric): 0603; Case Code (Imperial): 0201; Min Operating Temperature: -55°C; Max Operating Temperature: 125°C; Package Quantity: 1; Capacitance: 100pF; Packaging: Tape and Reel; Voltage Rating (DC): 50V; Dielectric: C0G; Termination: SMD/SMT; Voltage: 50V; Length: 0.6mm; Height: 0.3mm; Width: 0.012inch; Thickness: 0.013inch; Depth: 0.3mm; Radiation Hardening: No; REACH SVHC: No SVHC; Lead Free: Lead Free; ComponentLink1URL: http://search.murata.co.jp/Ceramy/image/img/A01X/G101/ENG/GRM0335C1H101JA01-01.pdf; ComponentLink1Description: http://search.murata.co.jp/Ceramy/image/img/A01X/G101/ENG/GRM0335C1H101JA01-01.pdf; ComponentLink2URL: https://www.verical.com/server-webapp/html/getDatasheet?partID=745940; ComponentLink2Description: https://www.verical.com/server-webapp/html/getDatasheet?partID=745940
pins: 1, 2

## Cap_100pF_0402_10V
designator C?, comment 100pF
100pF ±5% 10V Keramikkondensatoren C0G, NP0 0402 (1005 metrisch); Manufacturer: Yageo; Manufacturer PartNr: 885012005013; voltage: 10; Replaceable: yes; Dielectric Grade: C0G/NP0; value: 100pF; tolerance: ±5%; Footprint/Package: 0402 (1005 metric); Supplier 1: Digi-Key; Supplier Part Number 1: 732-7431-1-ND
footprint Ceramic Capacitor 0402 EIA
pins: 1, 2

## Cap_100uF_10V_1210
designator C?, comment 100uF
Multilayer Ceramic Capacitors MLCC - SMD/SMT 1210 100uF 10volts *Derate Voltage/Temp; Manufacturer: Murata; Manufacturer PartNr: GRM32ER61A107ME20L; Dielectric Grade: X5R; Replaceable: yes; voltage: 10 V; ShortDescription: 100uF, 10V; value: 100uF; Footprint/Package: 1210; Supplier 1: Mouser; Supplier Part Number 1: 81-GRM32ER61A107ME0L
footprint CAP-1210[3225] - RFL (SMD Chip 1210  - CAP - RFL)
footprint CAP-1210[3225] (SMD Chip 1210 - CAP)
pins: 1 Pos, 2 Neg

## Cap_100uF_1210
designator C?, comment 100uF  Supplier Part Number 1: 81-GRM32ER61A107ME0L  Supplier Part Number 2: 490-9969-6-ND  Supplier Part Number 3: 2611956
SMD/SMT 1210 100uF 10volts; Manufacturer: Murata; Manufacturer PartNr: GRM32ER61A107ME20L; tolerance: 20%; voltage: 10VDC; Replaceable: yes; Dielectric Grade: X5R; value: 100uF; ComponentLink1Description: mouser; ComponentLink1URL: https://www.mouser.ch/ProductDetail/Murata-Electronics/GRM32ER61A107ME20L?qs=%2fha2pyFadujTIW1iRtmxr653ZIgAU44vXequBnyWeR6jUus%2fFAauKtPX80sKE7XM; Footprint/Package: 1210; Supplier 1: Mouser; Supplier 2: Digi-Key; Supplier 3: Farnell
footprint Ceramic Capacitor 1210 EIA
pins: 1, 2

## Cap_270pF_0402
designator C?, comment 270pF  Supplier Part Number 1: 77-VJ0402Y271MXQPBC  Supplier Part Number 2: VJ0402Y271MXQPW1BC-ND
SMD/SMT 0402 270pF 10volts X7R 20%; Manufacturer: Vishay / Vitramon; Manufacturer PartNr: VJ0402Y271MXQPW1BC; voltage: 10VDC; Replaceable: yes; value: 270pF; tolerance: 20%; ComponentLink1Description: mouser; ComponentLink1URL: https://www.mouser.ch/ProductDetail/Vishay-Vitramon/VJ0402Y271MXQPW1BC?qs=sGAEpiMZZMs0AnBnWHyRQGuekufMepD5hIxY33Q3750%3d; Footprint/Package: 0402; Dielectric Grade: X7R; Supplier 1: Mouser; Supplier 2: Digi-Key
footprint Ceramic Capacitor 0402 EIA
pins: 1, 2

## Cap_470nF_0805_100V
designator C?, comment 470nF
470nF, 100V, X7R, 10 %, Chip Monolithic Ceramic Capacitor for General, 0805 (metric 2012); Manufacturer: Murata; Manufacturer PartNr: GRM21BR72A474KA73L; voltage: 100 VDC; Replaceable: yes; tolerance: 10 %; Supplier 1: Mouser; Supplier Part Number 1: 81-GRM21BR72A474KA73; Dielectric Grade: X7R; Footprint/Package: 0805; ShortDescription: 470nF, 100V; value: 470nF
footprint CAP-0805[2012] - RFL (SMD Chip 0805 - CAP - RFL)
footprint CAP-0805[2012] (SMD Chip 0805 - CAP)
pins: 1 Pos, 2 Neg

## Cap_4700pF_0402
designator C?, comment 4700pF  Supplier Part Number 1: 81-GRM155R61A472KA1D  Supplier Part Number 2: 490-8254-6-ND
SMD/SMT 0.0047uF 10volts 10%; Manufacturer: Murata; Manufacturer PartNr: GRM155R61A472KA01D; voltage: 10VDC; Replaceable: yes; Dielectric Grade: X5R; value: 4700pF; tolerance: 10%; ComponentLink1Description: mouser; ComponentLink1URL: https://www.mouser.ch/ProductDetail/Murata-Electronics/GRM155R61A472KA01D?qs=sGAEpiMZZMs0AnBnWHyRQJuLogdu9bcTuSYPL0o17LI%3d; Footprint/Package: 0402; Supplier 1: Mouser; Supplier 2: Digi-Key
footprint Ceramic Capacitor 0402 EIA
pins: 1, 2

## Cap_DNP_0805
designator C?, comment DNP
Do not place 0805 (2012 metric) - placeholder; Replaceable: no; value: DNP; tolerance: *; voltage: *; Dielectric Grade: *; Manufacturer: N/A; Manufacturer PartNr: N/A; Footprint/Package: 0805 (2012 metric); Supplier 1: N/A; Supplier Part Number 1: N/A; Remark: do not place
footprint Ceramic Capacitor 0805 EIA
pins: 1, 2

## CDSOT23-SM712
designator D?, comment TVS  Supplier Part Number 1: 652-CDSOT23-SM712  Supplier Part Number 2: CDSOT23-SM712DKR-ND  Supplier Part Number 3: 1824869
ESD Suppressors / TVS Diodes SOT-23 7V400W Low Capacitance; Manufacturer: Bourns; Manufacturer PartNr: CDSOT23-SM712; Replaceable: no; ComponentLink1Description: mouser; ComponentLink1URL: https://www.mouser.ch/ProductDetail/Bourns/CDSOT23-SM712?qs=sGAEpiMZZMviKXukECHWvZSlzh2FqLKC; Footprint/Package: SOT-23; Supplier 1: Mouser; Supplier 2: Digi-Key; Supplier 3: Farnell
footprint BOUR-SOT23-3_V (SOT23, 3-Leads, Body 2.9x1.3mm, Pitch 0.95mm)
pins: 1, 2, 3

## CMP-1034-01886-1
designator C?, comment DNP
CAP 10nF 50V ±10% 0402 (1005 Metric) Thickness 0.6mm SMD; Tolerance: Â±10%; Case-EIA: 0402; Case-Metric: 1005; Rated Voltage: 50 V; Max Thickness: 0.6 mm; Technology: SMT; Value: DNP
footprint CAPC0402(1005)60_N (Chip Capacitor, Body 1.0x0.5mm, Height 0.6mm, IPC Medium Density)
footprint CAPC0402(1005)60_L (Chip Capacitor, Body 1.0x0.5mm, Height 0.6mm, IPC High Density)
footprint CAPC0402(1005)60_M (Chip Capacitor, Body 1.0x0.5mm, Height 0.6mm, IPC Low Density)
pins: 1, 2
1 alternate drawing of the same symbol

## CMP-2000-07534-1
designator C?, comment 22201C106MAT2A  value 10uF, 100V
Chip Capacitor, 10 uF, +/- 20%, 100 V, -55 to 125 degC, 2220 (5750 Metric), RoHS, Tape and Reel; Manufacturer: AVX; Datasheet URL: http://datasheets.avx.com/X7RDielectric.pdf; Package Reference: 2220; Package Description: 2-Pin Surface Mount Device, Body 5 x 5.7 mm; Datasheet Version: 03/2017; Manufacturer URL: http://www.avx.com/; Mounting Technology: SurfaceMount
footprint CAPC5750X279X64LL40T39 (Chip Capacitor, 2-Leads, Body 6.1x5.4mm, IPC High Density)
footprint CAPC5750X279X64ML40T39 (Chip Capacitor, 2-Leads, Body 6.1x5.4mm, IPC Low Density)
footprint CAPC5750X279X64NL40T39 (Chip Capacitor, 2-Leads, Body 6.1x5.4mm, IPC Medium Density)
pins: 1, 2

## CONN_1x2_M50-3530242
designator P?, comment Manufacturer PartNr: M50-3530242  (hidden comment: CONN_1X02)  (net tie)
2 Pin, 1 Row, Jumper, 1.27mm; Manufacturer: Harwin; Replaceable: yes; Footprint/Package: 1.27mm; ComponentLink1Description: digikey; ComponentLink1URL: https://www.digikey.com/product-detail/en/harwin-inc/M50-3530242/952-3598-ND/7044013; Supplier1: digikey; Supplier Part Number 1: 952-3598-ND
footprint CONN_2x01_Harwin (Connector Header, vertical, 2 Pos, Pitch 1.27mm)
pins: 1, 2

## CONN_1X03_BBL-103-G-E
designator P?, comment CONN_1X03  Manufacturer PartNr: BBL-103-G-E  (net tie)
Headers & Wire Housings .100" Low Profile Single Row, Screw Machine Terminal Strip; Manufacturer: Samtec; Replaceable: no; Footprint/Package: 2.54mm; ComponentLink1Description: mouser; ComponentLink1URL: https://www.mouser.ch/ProductDetail/Harwin/M50-3630342?qs=sGAEpiMZZMs%252bGHln7q6pm8Vn94ktop%2fJJXqVipEXDKohcoO0QNXTaw%3d%3d
footprint CONN-1X03_BBL-103-G-E (Headers & Wire Housings .100" Low Profile Single Row, Screw Machine Terminal Strip)
pins: 1, 2, 3

## CONN_1X03_M50-3030342
designator P?, comment CONN_1X03  Manufacturer PartNr: M50-3030342
Sockel & Kabelgehäuse 3 WAY SIL VERT PC TAIL SKT; Manufacturer: Archer; Replaceable: no; Footprint/Package: 1.27 mm; Supplier 1: Mouser; ComponentLink1Description: mouser; ComponentLink1URL: https://www.mouser.ch/ProductDetail/Harwin/M50-3030342?qs=%2fha2pyFaduiRpn7Sn9fWVp%252bNpdzGcgnS82sSCZLLu%2fUjQZVEB%252bIkNw%3d%3d; Supplier Part Number 1: 855-M50-3030342
footprint CONN_1X03 (Connector; Header; 3 Position)
pins: 1, 2, 3

## CONN_1X03_M50-3630342
designator P?, comment CONN_1X03  Manufacturer PartNr: M50-3630342  (net tie)
Sockel & Kabelgehäuse 3 WAY SIL VERT PC TAIL SKT; Replaceable: no; Footprint/Package: 2.54mm; Supplier 1: Mouser; Supplier 2: Digi-Key; Supplier Part Number 2: M50-3630342R-ND; Supplier Part Number 1: 855-M50-3630342R; ComponentLink1Description: mouser; ComponentLink1URL: https://www.mouser.ch/ProductDetail/Harwin/M50-3630342?qs=sGAEpiMZZMs%252bGHln7q6pm8Vn94ktop%2fJJXqVipEXDKohcoO0QNXTaw%3d%3d
footprint M50-3630342
pins: 1, 2, 3

## CONN_1X03_SL-103-G-12
designator P?, comment CONN_1X03  Manufacturer PartNr: SL-103-G-12
3 Positionen, Buchsenleiste, Steckverbinder, 0,100" (2,54 mm), Durchkontaktierung, Gold; Manufacturer: Samtec; Replaceable: no; Footprint/Package: 2.54 mm; ComponentLink1Description: mouser; ComponentLink1URL: https://www.mouser.ch/ProductDetail/Samtec/BBL-103-G-E?qs=sGAEpiMZZMs%252bGHln7q6pm5ZHNJhTjtr3eyJKd0ZImQM%3d; Supplier 1: Digi-Key; Supplier 2: Mouser; Supplier 3: Farnell; Supplier Part Number 1: SAM1104-03-ND; Supplier Part Number 2: 200-SL103G12; Supplier Part Number 3: 2019491
footprint CONN-1X03_F (Connector; Header; 3 Position, Female)
pins: 1, 2, 3

## CONN_2X2_FTM-102-02-L-DV
designator P?, comment CONN_2X2
Connector Header Surface Mount 4 position 0.039" (1.00mm); Manufacturer: Samtec; Manufacturer PartNr: FTM-102-02-L-DV; Replaceable: no; value: CON SMD 4POS 1MM; Footprint/Package: 0.039" (1.00mm); Supplier 1: Digi-Key; Supplier Part Number 1: SAM15173-ND; Datasheet Link: http://suddendocs.samtec.com/prints/ftm-1xx-xx-xx-dv-xx-footprint.pdf
footprint FTM-102-02-L-DV (CONN HEADER SMD 4POS 1.00MM)
pins: 1, 2, 3, 4

## CONN_2X2_FTMH-102-03-L-DV
designator P?, comment CONN_2X2
4 Positionen, Steckleiste, kürzbar Steckverbinder, 0.039" (1mm), Oberflächenmontage, Gold; Manufacturer: Samtec; Mnaufacturer PartNr: FTS-102-03-L-DV; Replaceable: no; Footprint/Package: *; Supplier 1: Digi-Key; Supplier Part Number 1: SAM1159-02-ND
footprint FTMH-102-03-L-DV (CONN HEADER SMD 4POS 1MM)
pins: 1, 2, 3, 4

## CONN_2X2_FTS-102-01-F-D
designator P?, comment CONN_2X2
Connector Header Through Hole 4 position 0.050" (1.27mm); Manufacturer: Samtec; Mnaufacturer PartNr: FTS-102-03-L-DV; Replaceable: no; Footprint/Package: *; Supplier 1: Digi-Key; Supplier Part Number 1: SAM1159-02-ND
footprint FTS-102-01-F-D (CONN HEADER SMD 4POS 1.27 MM THROUGH HOLE)
pins: 1, 2, 3, 4

## CONN_2X2_FTS-102-03-L-DV
designator P?, comment CONN_2X2
4 Positionen, Steckleiste, kürzbar Steckverbinder, 0,050" (1,27mm), Oberflächenmontage, Gold; Manufacturer: Samtec; Mnaufacturer PartNr: FTS-102-03-L-DV; Replaceable: no; value: 2x2 connector; Footprint/Package: CONN SMD 1.27MM; Supplier 1: Digi-Key; Supplier Part Number 1: SAM1159-02-ND; Remark: *; Datasheet Link: http://suddendocs.samtec.com/prints/fts-d.pdf
footprint FTS-102-03-L-DV (CONN HEADER SMD 4POS 1.27MM)
pins: 1, 2, 3, 4

## CONN_2X03_FTS-103-02-F-DV
designator P?, comment CONN_2X03  Manufacturer PartNr: FTS-103-02-F-DV
6Pin, 2Rows, MICRO LOW-PROFILE TERMINAL STRIPS; Manufacturer: Samtec; Replaceable: *; Footprint/Package: *; Supplier 1: Digi-Key; Supplier 2: Mouser; Supplier 3: Farnell; Supplier Part Number 1: SAM13893DKR-ND; Supplier Part Number 2: 200-FTS10302FDVTR; Supplier Part Number 3: 1928022
footprint Samtec_FTS-103-02-F-DV_6_R
pins: 1, 2, 3, 4, 5, 6

## CONN_2X03_FTSH-103-01-F-DH
designator P?, comment CONN_2X03  Manufacturer PartNr: FTSH-103-01-F-DH
6Pin, 2Rows, MICRO LOW-PROFILE TERMINAL STRIPS; Manufacturer: Samtec; Replaceable: no; Footprint/Package: 1.27 mm
footprint FTSH-103-01-F-DH
pins: 1, 2, 3, 4, 5, 6

## CONN_2X05_FTSH-105-01-F-DH
designator P?, comment CONN_2X05  Manufacturer PartNr: FTSH-105-01-F-DH
10Pin, 2Rows, side/horizontally, MICRO LOW-PROFILE TERMINAL STRIPS; Manufacturer: Samtec; Replaceable: no; ComponentLink1Description: mouser; ComponentLink1URL: https://www.mouser.ch/ProductDetail/Samtec/FTSH-110-02-F-DH?qs=sGAEpiMZZMs%252bGHln7q6pm8Vn94ktop%2fJX5D4YaS%252bHqWex9Ov5NBeXw%3d%3d; Footprint/Package: 1.27 mm
footprint FTSH-105-01-F-DH
pins: 1, 2, 3, 4, 5, 6, 7, 8, 9, 10

## CONN_2X10_FTS-110-02-F-DV
designator P?, comment CONN_2X10  Manufacturer PartNr: FTS-110-02-F-DV
20Pin, 2Rows, MICRO LOW-PROFILE TERMINAL STRIPS; Manufacturer: Samtec; Replaceable: *; Footprint/Package: *; Supplier 1: Farnell; Supplier 2: Digi-Key; Supplier 3: Mouser; Supplier Part Number 1: 2856415; Supplier Part Number 2: SAM11236-ND; Supplier Part Number 3: 200-FTS11002FDV; ComponentLink1Description: mouser; ComponentLink1URL: https://www.mouser.ch/ProductDetail/Samtec/FTS-110-02-F-DV?qs=sGAEpiMZZMs%252bGHln7q6pm8Vn94ktop%2fJBJE8kZlEC9khaSba54SEVA%3d%3d
footprint Samtec_FTS-110-02-F-DV_20_R
pins: 1, 2, 3, 4, 5, 6, 7, 8, 9, 10, 11, 12, 13, 14, 15, 16, 17, 18, 19, 20

## CONN_2X10_FTSH-110-01-F-DH
designator P?, comment CONN_2X10  Manufacturer PartNr: FTSH-110-01-F-DH
20Pin, 2Rows, side/horizontally, MICRO LOW-PROFILE TERMINAL STRIPS; Manufacturer: Samtec; Replaceable: no; ComponentLink1Description: mouser; ComponentLink1URL: https://www.mouser.ch/ProductDetail/Samtec/FTSH-110-02-F-DH?qs=sGAEpiMZZMs%252bGHln7q6pm8Vn94ktop%2fJX5D4YaS%252bHqWex9Ov5NBeXw%3d%3d; Footprint/Package: 1.27 mm; Supplier 1: Digi-Key; Supplier 2: Farnell; Supplier 3: Mouser; Supplier Part Number 1: SAM11236-ND; Supplier Part Number 2: 2856415; Supplier Part Number 3: 200-FTS11002FDV
footprint FTSH-110-01-F-DH
pins: 1, 2, 3, 4, 5, 6, 7, 8, 9, 10, 11, 12, 13, 14, 15, 16, 17, 18, 19, 20

## CONN_Erni_4_2014012
designator J?
footprint Erni_214012 (Stecker)
pins: 1, 2, 3, 4, PAD, PAD, PAD, PAD

## CONN_Erni_6_214013
designator J?, comment CONN_Erni  Supplier Part Number 1: 305-214013
Headers & Wire Housings 6P 1.27MM SNGL ROW R/A MALE BLK; Manufacturer: ERNI; Manufacturer PartNr: 214013; Replaceable: no; Footprint/Package: 1.27mm; ComponentLink1Description: mouser; ComponentLink1URL: https://www.mouser.ch/ProductDetail/ERNI/214013?qs=sGAEpiMZZMvMXbh32ZmHAMhEPQG9jaj7Ou3J%2fuOb4IQ%3d; Supplier 1: Mouser
footprint ERNI_214013_6_R
footprint ERNI_214013 Randmontage_6_R
pins: 1, 2, 3, 4, 5, 6

## CONN_Segger_6_PIN
designator P?, comment J-LINK 6-PIN
Segger, J-Link 6-pin Needle Adapter
footprint CONN-SEGGER-6-PIN (J-Link 6-pin Needle Adapter)
pins: 1 VCC, 2 SWDIO, 3 NRESET, 4 SWCLK, 5 GND, 6 SWO

## CONN_Segger_6_PIN_V2
designator P?, comment J-LINK 6-PIN_V2
Segger, J-Link 6-pin Needle Adapter without alignment holes.; Manufacturer PartNr: Segger 6-Pin Needle Adapter; Remark: Comprised of 3 holes and 6 pads; Replaceable: no; value: J Link 6 pin; Datasheet Link: https://www.segger.com/products/debug-probes/j-link/accessories/adapters/6-pin-needle-adapter/; Footprint/Package: See datasheet; Supplier 1: N/A; Supplier Part Number 1: N/A
footprint CONN-SEGGER-6-PIN_VERS2 (J-Link 6-pin Needle Adapter without holes for alignment)
pins: 1 VCC, 2 SWDIO, 3 NRESET, 4 SWCLK, 5 GND, 6 SWO

## CONN_Segger_10_PIN
designator P?, comment J-LINK 10-PIN
Segger, J-Link 10-pin Needle Adapter
footprint CONN-SEGGER-10-PIN (J-Link 10-pin Needle Adapter)
pins: 1 VTref, 2 SWDIO, 3 GND, 4 SWCLK, 5 5V, 6 SWO, 7 RTCK, 8 TDI, 9 TRST, 10 nRESET

## CRYSTAL_2Pin_ ESC_32.7680KHZ
designator Y?, comment ShortDescription: 32.768KHZ  (hidden comment: 32.7680KHZ 9PF SMD)
32,768kHz, ±20ppm crystal, 9pF,2-SMD, no lead; Manufacturer: ESC Inc.; Manufacturer PartNr: ECS-.327-9-12R-TR; Replaceable: no; value: XTAL 32.768kHz; Footprint/Package: 0.8x1.3; Supplier 1: Digi-Key; Supplier Part Number 1: XC2745CT-ND; ComponentLink1Description: digikey; ComponentLink1URL: https://www.digikey.com/product-detail/en/abracon-llc/ABM3-12.000MHZ-B2-T/535-9100-2-ND/675295; Load Capacitance: 9 pF; Datasheet Link: https://ecsxtal.com/store/pdf/ECX-12R.pdf
footprint ECS_327-9-12R-TR (SMD CRYSTAL 32.7680KHZ)
pins: 1 OSC1, 2 OSC2

## CRYSTAL_2Pin_ABM3-12.000MHZ-B2-T
designator Y?, comment ABM3-12.000MHZ-B2-T
12MHz ±20ppm Crystal 18pF 60 Ohms 2-SMD, No Lead; Manufacturer: Abracon LLC; Replaceable: no; Manufacturer PartNr: ABM3-12.000MHZ-B2-T; ShortDescription: 12MHz; Footprint/Package: 2-SMD; ComponentLink1Description: digikey; ComponentLink1URL: https://www.digikey.com/product-detail/en/abracon-llc/ABM3-12.000MHZ-B2-T/535-9100-2-ND/675295
footprint ABM3-12.000MHZ-B2-T
pins: 1 OSC1, 2 OSC2

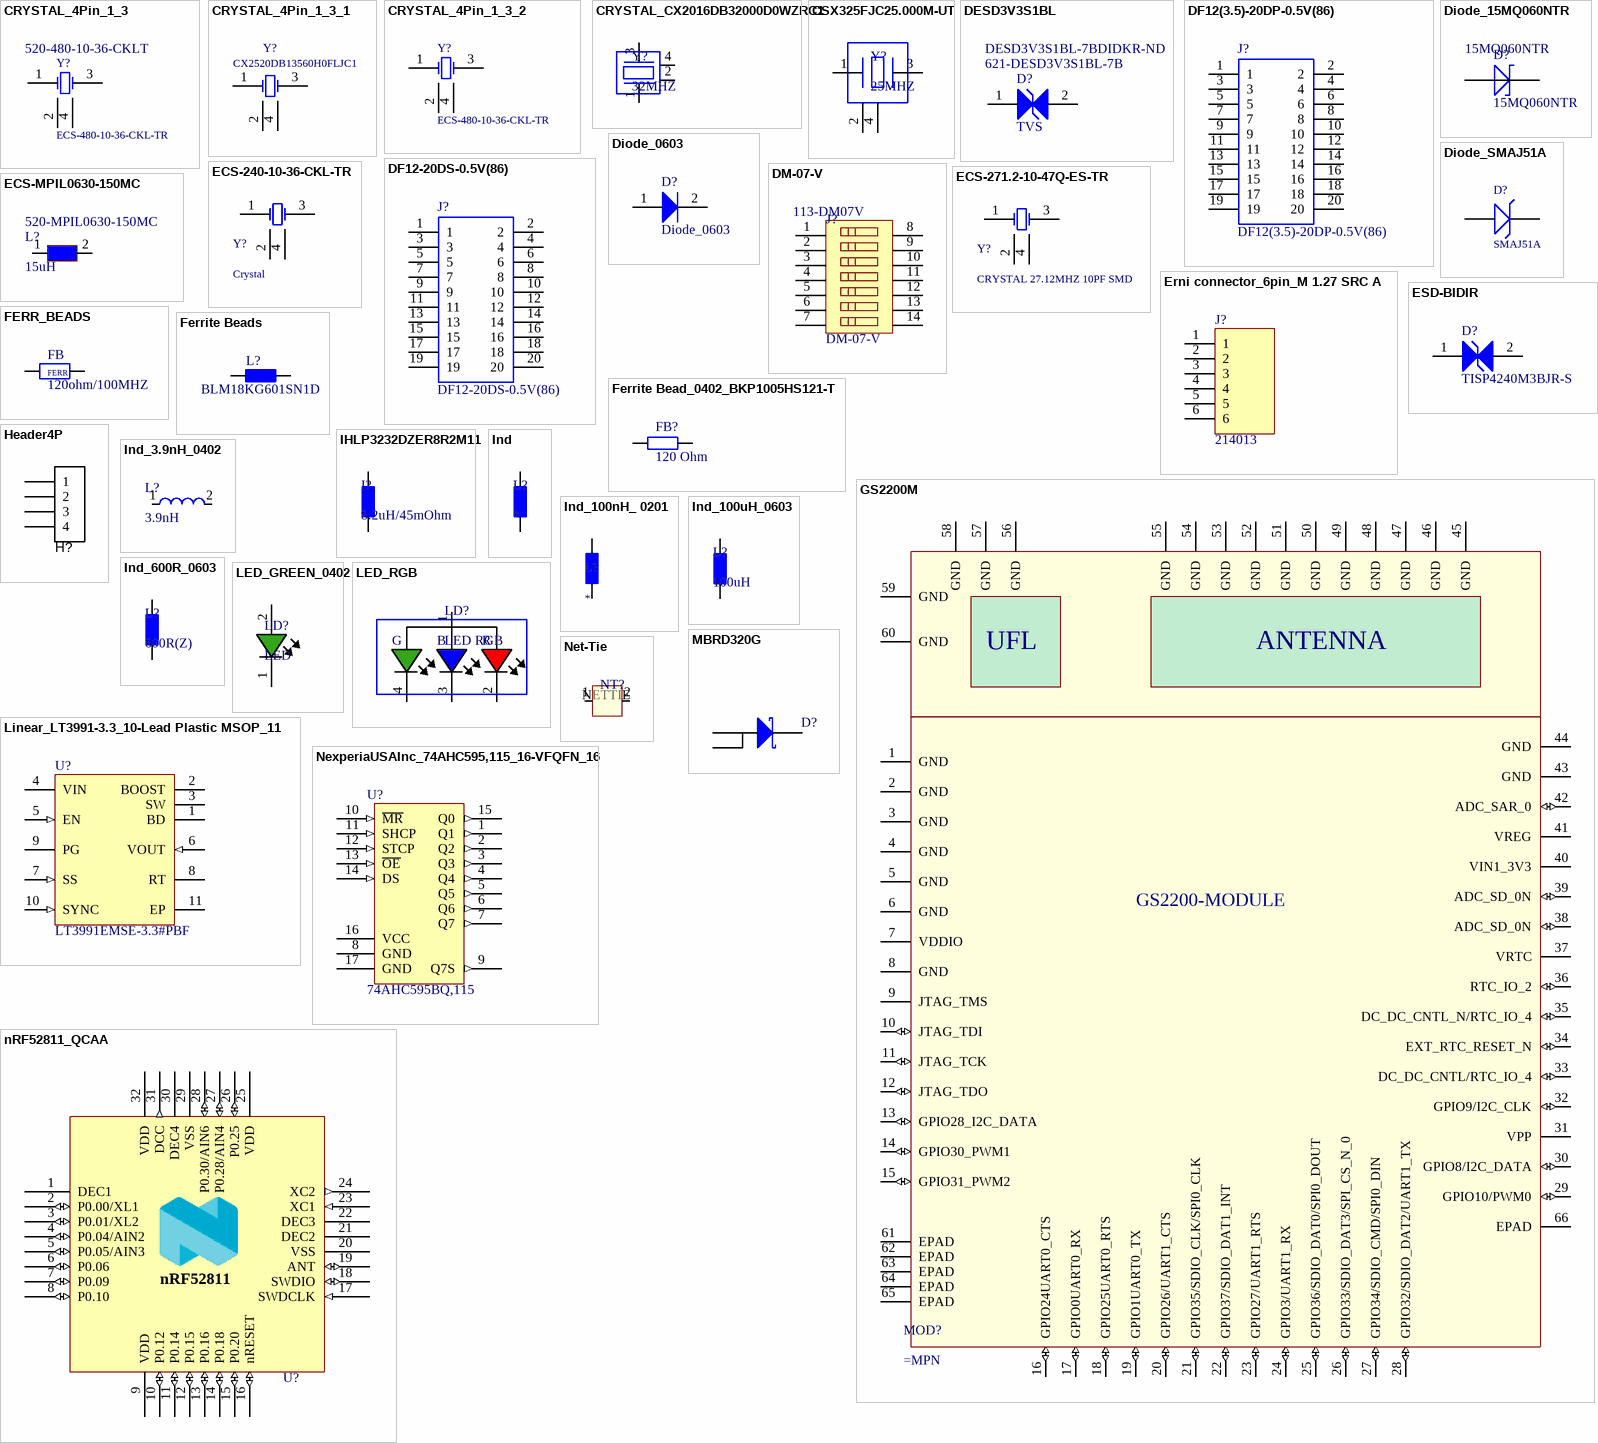
[diagram p2: symbols CRYSTAL_4Pin_1_3 to nRF52811_QCAA]

## CRYSTAL_4Pin_1_3
designator Y?, comment ECS-480-10-36-CKL-TR  Supplier Part Number 1: 520-480-10-36-CKLT
48MHz, SMD CRYSTAL; Manufacturer: ECS; Replaceable: no; Manufacturer PartNr: ECS-480-10-36-CKL-TR; ShortDescription: 48MHz; Footprint/Package: 2.5 x 2.0 mm; ComponentLink1Description: mouser; ComponentLink1URL: https://www.mouser.ch/ProductDetail/ECS/ECS-480-10-36-CKL-TR?qs=%2fha2pyFaduiJDDUMn7kLm%2fCYfOvqPL5iL4hK6g%252bPFacvo4wWhO4d4UMTkDEH%252bJpH; Supplier 1: Mouser
footprint ECS_ECX-2236_4_R
pins: 1 OSC1, 2 OSC2, 3 OSC2, 4 OSC3

## CRYSTAL_4Pin_1_3_1
designator Y?, comment CX2520DB13560H0FLJC1
13.56MHz ±10ppm Crystal 12pF 150 Ohms 4-SMD, No Lead
footprint AVX/Kyocera_DFN4_4_RWH (TXCCORPORATION_4-SMD_4_R)
footprint AVX/Kyocera_DFN4_4_RWH
pins: 1 OSC1, 2 OSC2, 3 OSC3, 4 OSC4

## CRYSTAL_4Pin_1_3_2
designator Y?, comment ECS-480-10-36-CKL-TR
48MHz, SMD CRYSTAL; Manufacturer: ECS; Manufacturer PartNr: ECS-480-10-36-CKL-TR; ShortDescription: 48MHz
footprint ECS_ECX-2236_4_R
pins: 1 OSC1, 2 OSC2, 3 OSC2, 4 OSC3

## CRYSTAL_CX2016DB32000D0WZRC1
designator Y?, comment 32MHZ
32MHz ±25ppm Crystal 8pF 60 Ohms 4-SMD, No Lead; Manufacturer: Kyocera; Manufacturer PartNr: CX2016DB32000D0WZRC1; value: XTAL 32 MHz; Replaceable: no; Supplier 1: Digi-Key; Supplier Part Number 1: 1253-1586-1-ND; Case/Package: SMD/SMT; Frequency: 32MHz; Frequency Stability: 25ppm; Load Capacitance: 8pF; Footprint/Package: See datasheet; Datasheet Link: https://media.digikey.com/pdf/Data%20Sheets/AVX%20PDFs/CX2016DB32000D0WZRC1_Spec.pdf
footprint Kyocera_CX2016DB32000 (CRYSTAL 32.0000MHZ 8PF SMD)
pins: 1 OSC1, 2 OSC2, 3 OSC3, 4 OSC4

## CSX325FJC25.000M-UT
designator Y?, comment 25MHZ
OSCILLATOR 25.000MHZ 3.3V SMD; Manufacturer: Citizen; Manufacturer Part Number: CSX325FJC25.000M-UT; Current Rating: 5mA; Frequency Stability: 100ppm; Load Capacitance: 15pF; Supplier 1: Digi-Key; Supplier Part Number 1: 300-8691-6-ND; Stock 1: 0; Mount: Surface Mount; Case/Package: SMD/SMT; Number of Pins: 4; Min Operating Temperature: -20°C; Max Operating Temperature: 70°C; Package Quantity: 2000; Packaging: Tape and Reel; Termination: SMD/SMT; Frequency: 25MHz; Max Supply Current: 5mA; Composition: Ceramic; Operating Supply Voltage: 3.3V; Length: 0.126inch; Height: 0.039inch; Width: 0.098inch; ComponentLink1URL: //media.digikey.com/pdf/Data%20Sheets/Citizen%20PDFs/csx325f.pdf; ComponentLink1Description: //media.digikey.com/pdf/Data%20Sheets/Citizen%20PDFs/csx325f.pdf
pins: 1, 2, 3, 4

## DESD3V3S1BL
designator D?, comment TVS  Supplier Part Number 1: 621-DESD3V3S1BL-7B  Supplier Part Number 2: DESD3V3S1BL-7BDIDKR-ND
ESD Suppressors / TVS Diodes Low Cap Bi TVS 10pF 3.3V 3.8Vbr 25kV; Manufacturer: Diodes Incorporated; Manufacturer PartNr: DESD3V3S1BL-7B; Replaceable: no; ComponentLink1Description: mouser; ComponentLink1URL: https://www.mouser.ch/ProductDetail/Diodes-Incorporated/DESD3V3S1BL-7B?qs=%2fha2pyFaduhA707awRoRgtNXj1BWecNQPXz8CtVYm9O48rqwfwJI0g%3d%3d; Footprint/Package: DFN1006-2; Supplier 1: Mouser; Supplier 2: Digi-Key
footprint DFN1006-2 (DFN, 2-Leads, Body 0.57x1.00mm, Pitch 0.65mm, IPC Medium Density)
pins: 1 A, 2 K